# Altium schematic symbol library SCH - POWER - LINEAR VREG - AD ADP7182 LFCSP6 FIXED.SchLib: 1 symbol
Pins are listed as number, name and electrical type; pins without a type are passive.

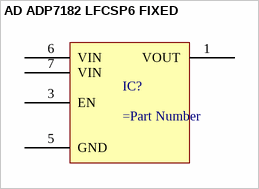
[diagram p0: symbol AD ADP7182 LFCSP6 FIXED]

## AD ADP7182 LFCSP6 FIXED
designator IC?
pins: 1 VOUT, 3 EN, 5 GND, 6 VIN, 7 VIN